# Altium schematic symbol library Mounting_Hole_Unplated.SchLib: 1 symbol
Pins are listed as number, name and electrical type; pins without a type are passive.

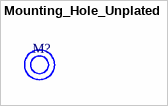
[diagram p0: symbol Mounting_Hole_Unplated]

## Mounting_Hole_Unplated
designator M?  (value not drawn)